# EAGLE library part STM32F103 (library sc_usercreated)
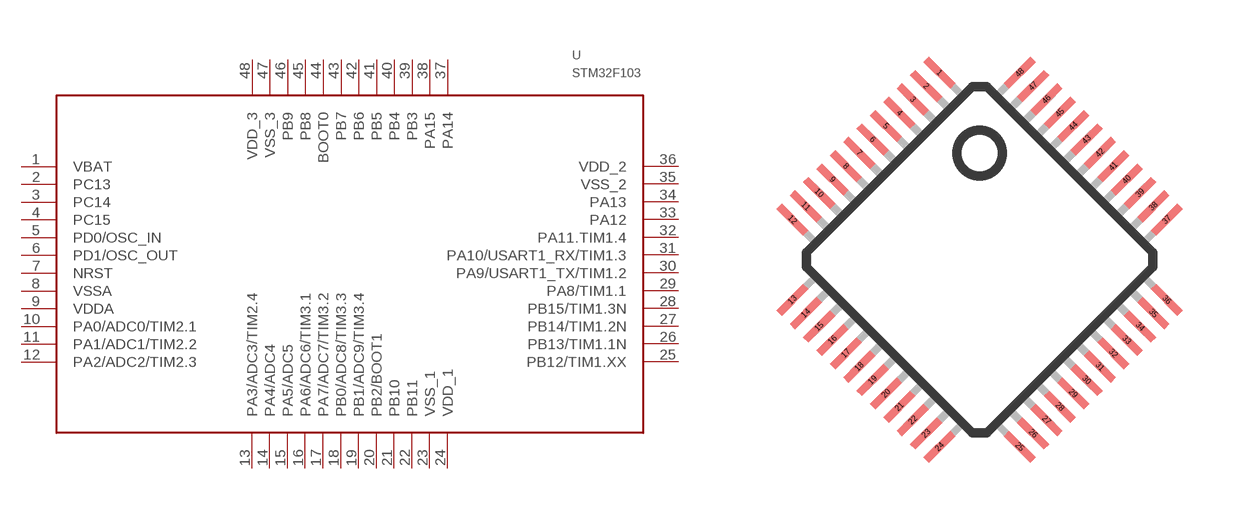
[diagram p18: symbol with the pads of LQFP48_45DEG; footprint LQFP48_45DEG]

Designator prefix U

## STM32F103  [LQFP48_45DEG]
1  VBAT
2  PC13
3  PC14
4  PC15
5  PD0/OSC_IN
6  PD1/OSC_OUT
7  NRST
8  VSSA
9  VDDA
10  PA0/ADC0/TIM2.1
11  PA1/ADC1/TIM2.2
12  PA2/ADC2/TIM2.3
13  PA3/ADC3/TIM2.4
14  PA4/ADC4
15  PA5/ADC5
16  PA6/ADC6/TIM3.1
17  PA7/ADC7/TIM3.2
18  PB0/ADC8/TIM3.3
19  PB1/ADC9/TIM3.4
20  PB2/BOOT1
21  PB10
22  PB11
23  VSS_1
24  VDD_1
25  PB12/TIM1.XX
26  PB13/TIM1.1N
27  PB14/TIM1.2N
28  PB15/TIM1.3N
29  PA8/TIM1.1
30  PA9/USART1_TX/TIM1.2
31  PA10/USART1_RX/TIM1.3
32  PA11.TIM1.4
33  PA12
34  PA13
35  VSS_2
36  VDD_2
37  PA14
38  PA15
39  PB3
40  PB4
41  PB5
42  PB6
43  PB7
44  BOOT0
45  PB8
46  PB9
47  VSS_3
48  VDD_3

## Footprint LQFP48_45DEG (pad centres in mm)
smd 0.2 x 1 rotated 225: 1 -1.061,4.95; 2 -1.414,4.596; 3 -1.768,4.243; 4 -2.121,3.889; 5 -2.475,3.535; 6 -2.828,3.182; 7 -3.182,2.828; 8 -3.535,2.475; 9 -3.889,2.121; 10 -4.243,1.768; 11 -4.596,1.414; 12 -4.95,1.061; 25 1.061,-4.95; 26 1.414,-4.596; 27 1.768,-4.243; 28 2.121,-3.889; 29 2.475,-3.535; 30 2.828,-3.182; 31 3.182,-2.828; 32 3.535,-2.475; 33 3.889,-2.121; 34 4.243,-1.768; 35 4.596,-1.414; 36 4.95,-1.061
smd 1 x 0.2 rotated 225: 13 -4.95,-1.061; 14 -4.596,-1.414; 15 -4.243,-1.768; 16 -3.889,-2.121; 17 -3.535,-2.475; 18 -3.182,-2.828; 19 -2.828,-3.182; 20 -2.475,-3.535; 21 -2.121,-3.889; 22 -1.768,-4.243; 23 -1.414,-4.596; 24 -1.061,-4.95; 37 4.95,1.061; 38 4.596,1.414; 39 4.243,1.768; 40 3.889,2.121; 41 3.535,2.475; 42 3.182,2.828; 43 2.828,3.182; 44 2.475,3.535; 45 2.121,3.889; 46 1.768,4.243; 47 1.414,4.596; 48 1.061,4.95